# Altium footprint library Footprint-Lib-ABahlmann-SMD.PcbLib: 105 footprints (part 3 of 7)
Each footprint in its own frame and in the unit in brackets; x right, y up, seen from the top. Pads: shape width x height; smd on the part's side, far side on the other; paste and mask are expansions set on the pad; w line width, h text height; cw(c..) or ccw(c..) is an arc to the next point about the centre after c.
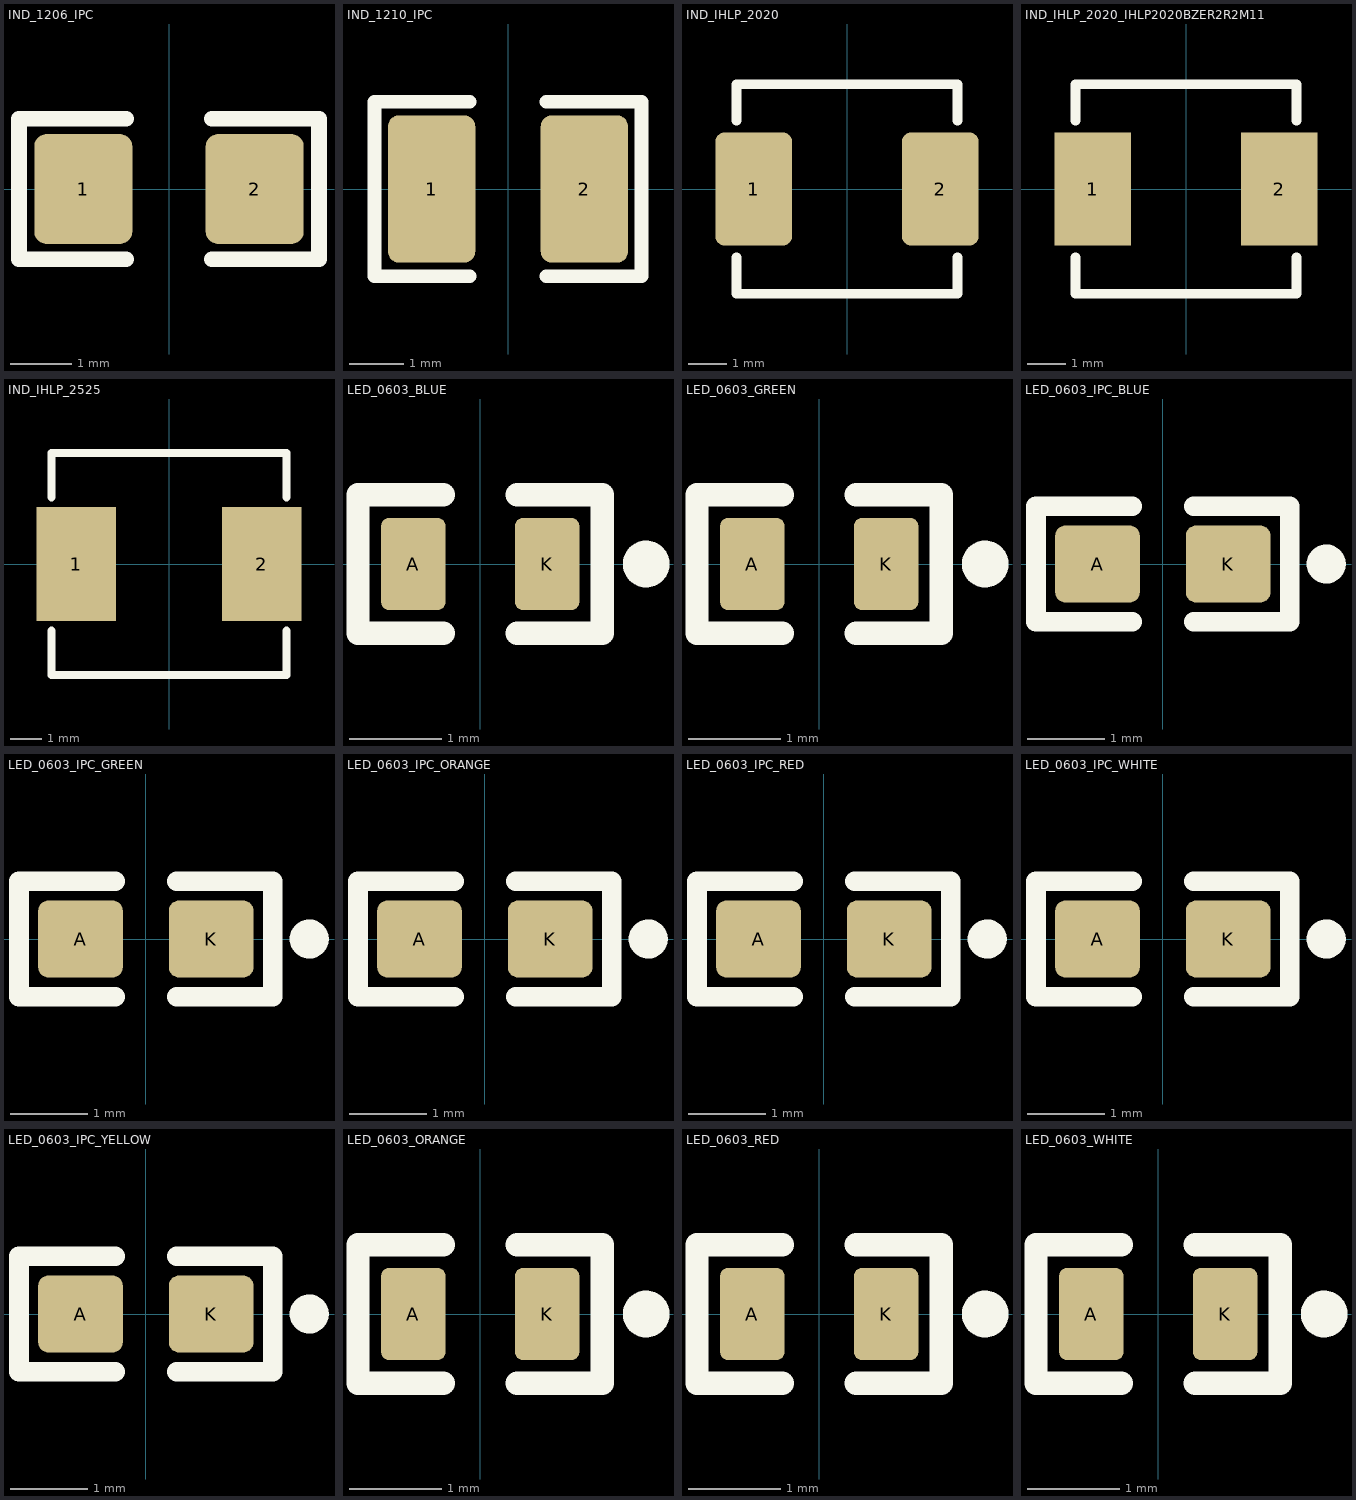
[diagram p2: the footprints below, top view; thin cyan lines are the x and y axes]

## IND_1206_IPC [mm]
pads (2):
  rrect25% 1.6x1.8 smd: 1(-1.4,0) 2(1.4,0)
Top Overlay:
  lines w0.254: -0.7,-1.15 -2.45,-1.15 -2.45,1.15 -0.7,1.15 ; 0.7,-1.15 2.45,-1.15 2.45,1.15 0.7,1.15
3D body "IND_1206.stp": height 0.81, standoff 0.01, extent -1.6,-0.8 1.6,0.8

## IND_1210_IPC [mm]
pads (2):
  rrect25% 1.6x2.7 smd: 1(-1.4,0) 2(1.4,0)
Top Overlay:
  lines w0.254: -0.7,-1.6 -2.45,-1.6 -2.45,1.6 -0.7,1.6 ; 0.7,-1.6 2.45,-1.6 2.45,1.6 0.7,1.6
3D body "IND_1210.stp": height 0.96, standoff 0.01, extent -1.6,-1.25 1.6,1.25

## IND_IHLP_2020 [mm]
pads (2):
  rrect25% 2x2.95 smd: 1(-2.425,0) 2(2.425,0)
Top Overlay:
  lines w0.254: -2.875,-1.775 -2.875,-2.725 2.875,-2.725 2.875,-1.775 ; -2.875,1.775 -2.875,2.725 2.875,2.725 2.875,1.775
3D body "IHLP2020CZER150M5A.stp": height 2.87, standoff 0.01, extent -2.726,-2.576 2.725,2.57

## IND_IHLP_2020_IHLP2020BZER2R2M11 [mm]
pads (2):
  rect 2x2.95 smd: 1(-2.425,0) 2(2.425,0)
Top Overlay:
  lines w0.254: -2.875,-1.775 -2.875,-2.725 2.875,-2.725 2.875,-1.775 ; -2.875,1.775 -2.875,2.725 2.875,2.725 2.875,1.775
3D body "IHLP2020BZER2R2M11.stp": height 1.93, standoff 0.01, extent -2.726,-2.576 2.725,2.57

## IND_IHLP_2525 [mm]
pads (2):
  rect 2.5x3.6 smd: 1(-2.921,0) 2(2.921,0)
Top Overlay:
  lines w0.254: -3.7,-2.1 -3.7,-3.5 3.7,-3.5 3.7,-2.1 ; -3.7,2.1 -3.7,3.5 3.7,3.5 3.7,2.1
3D body "IHLP2525CZER1R0M01.stp": height 2.87, standoff -0.01, extent -3.538,-3.336 3.539,3.334

## LED_0603_BLUE [mm]
pads (2):
  rrect25% 0.7x1 smd: A(-0.725,0) K(0.725,0)
Top Overlay:
  circle w0.254: c1.8,0 r0.127
  lines w0.254: -0.4,-0.75 -1.325,-0.75 -1.325,0.75 -0.4,0.75 ; 0.4,-0.75 1.325,-0.75 1.325,0.75 0.4,0.75
3D body "LED_0603_BLUE.STEP": height 0.55, standoff 0.01, extent -0.8,-0.4 0.8,0.4

## LED_0603_GREEN [mm]
pads (2):
  rrect25% 0.7x1 smd: A(-0.725,0) K(0.725,0)
Top Overlay:
  circle w0.254: c1.8,0 r0.127
  lines w0.254: -0.4,-0.75 -1.325,-0.75 -1.325,0.75 -0.4,0.75 ; 0.4,-0.75 1.325,-0.75 1.325,0.75 0.4,0.75
3D body "LED_0603_GREEN.STEP": height 0.55, standoff 0.01, extent -0.8,-0.4 0.8,0.4

## LED_0603_IPC_BLUE [mm]
pads (2):
  rrect25% 1.1x1 smd: A(-0.85,0) K(0.85,0)
Top Overlay:
  circle w0.254: c2.125,0 r0.127
  lines w0.254: -0.4,-0.75 -1.65,-0.75 -1.65,0.75 -0.4,0.75 ; 0.4,-0.75 1.65,-0.75 1.65,0.75 0.4,0.75
3D body "LED_0603_BLUE.STEP": height 0.55, standoff 0.01, extent -0.8,-0.4 0.8,0.4

## LED_0603_IPC_GREEN [mm]
pads (2):
  rrect25% 1.1x1 smd: A(-0.85,0) K(0.85,0)
Top Overlay:
  circle w0.254: c2.125,0 r0.127
  lines w0.254: -0.4,-0.75 -1.65,-0.75 -1.65,0.75 -0.4,0.75 ; 0.4,-0.75 1.65,-0.75 1.65,0.75 0.4,0.75
3D body "LED_0603_GREEN.STEP": height 0.55, standoff 0.01, extent -0.8,-0.4 0.8,0.4

## LED_0603_IPC_ORANGE [mm]
pads (2):
  rrect25% 1.1x1 smd: A(-0.85,0) K(0.85,0)
Top Overlay:
  circle w0.254: c2.125,0 r0.127
  lines w0.254: -0.4,-0.75 -1.65,-0.75 -1.65,0.75 -0.4,0.75 ; 0.4,-0.75 1.65,-0.75 1.65,0.75 0.4,0.75
3D body "LED_0603_WHITE.STEP": height 0.55, standoff 0.01, extent -0.8,-0.4 0.8,0.4

## LED_0603_IPC_RED [mm]
pads (2):
  rrect25% 1.1x1 smd: A(-0.85,0) K(0.85,0)
Top Overlay:
  circle w0.254: c2.125,0 r0.127
  lines w0.254: -0.4,-0.75 -1.65,-0.75 -1.65,0.75 -0.4,0.75 ; 0.4,-0.75 1.65,-0.75 1.65,0.75 0.4,0.75
3D body "LED_0603_RED.STEP": height 0.55, standoff 0.01, extent -0.8,-0.4 0.8,0.4

## LED_0603_IPC_WHITE [mm]
pads (2):
  rrect25% 1.1x1 smd: A(-0.85,0) K(0.85,0)
Top Overlay:
  circle w0.254: c2.125,0 r0.127
  lines w0.254: -0.4,-0.75 -1.65,-0.75 -1.65,0.75 -0.4,0.75 ; 0.4,-0.75 1.65,-0.75 1.65,0.75 0.4,0.75
3D body "LED_0603_WHITE.STEP": height 0.55, standoff 0.01, extent -0.8,-0.4 0.8,0.4

## LED_0603_IPC_YELLOW [mm]
pads (2):
  rrect25% 1.1x1 smd: A(-0.85,0) K(0.85,0)
Top Overlay:
  circle w0.254: c2.125,0 r0.127
  lines w0.254: -0.4,-0.75 -1.65,-0.75 -1.65,0.75 -0.4,0.75 ; 0.4,-0.75 1.65,-0.75 1.65,0.75 0.4,0.75
3D body "LED_0603_YELLOW.STEP": height 0.55, standoff 0.01, extent -0.8,-0.4 0.8,0.4

## LED_0603_ORANGE [mm]
pads (2):
  rrect25% 0.7x1 smd: A(-0.725,0) K(0.725,0)
Top Overlay:
  circle w0.254: c1.8,0 r0.127
  lines w0.254: -0.4,-0.75 -1.325,-0.75 -1.325,0.75 -0.4,0.75 ; 0.4,-0.75 1.325,-0.75 1.325,0.75 0.4,0.75
3D body "LED_0603_WHITE.STEP": height 0.55, standoff 0.01, extent -0.8,-0.4 0.8,0.4

## LED_0603_RED [mm]
pads (2):
  rrect25% 0.7x1 smd: A(-0.725,0) K(0.725,0)
Top Overlay:
  circle w0.254: c1.8,0 r0.127
  lines w0.254: -0.4,-0.75 -1.325,-0.75 -1.325,0.75 -0.4,0.75 ; 0.4,-0.75 1.325,-0.75 1.325,0.75 0.4,0.75
3D body "LED_0603_RED.STEP": height 0.55, standoff 0.01, extent -0.8,-0.4 0.8,0.4

## LED_0603_WHITE [mm]
pads (2):
  rrect25% 0.7x1 smd: A(-0.725,0) K(0.725,0)
Top Overlay:
  circle w0.254: c1.8,0 r0.127
  lines w0.254: -0.4,-0.75 -1.325,-0.75 -1.325,0.75 -0.4,0.75 ; 0.4,-0.75 1.325,-0.75 1.325,0.75 0.4,0.75
3D body "LED_0603_WHITE.STEP": height 0.55, standoff 0.01, extent -0.8,-0.4 0.8,0.4